# Altium integrated library Xilinx Spartan-3AN.IntLib: 30 symbols (part 1 of 23)
Pins are listed as number, name and electrical type; pins without a type are passive.

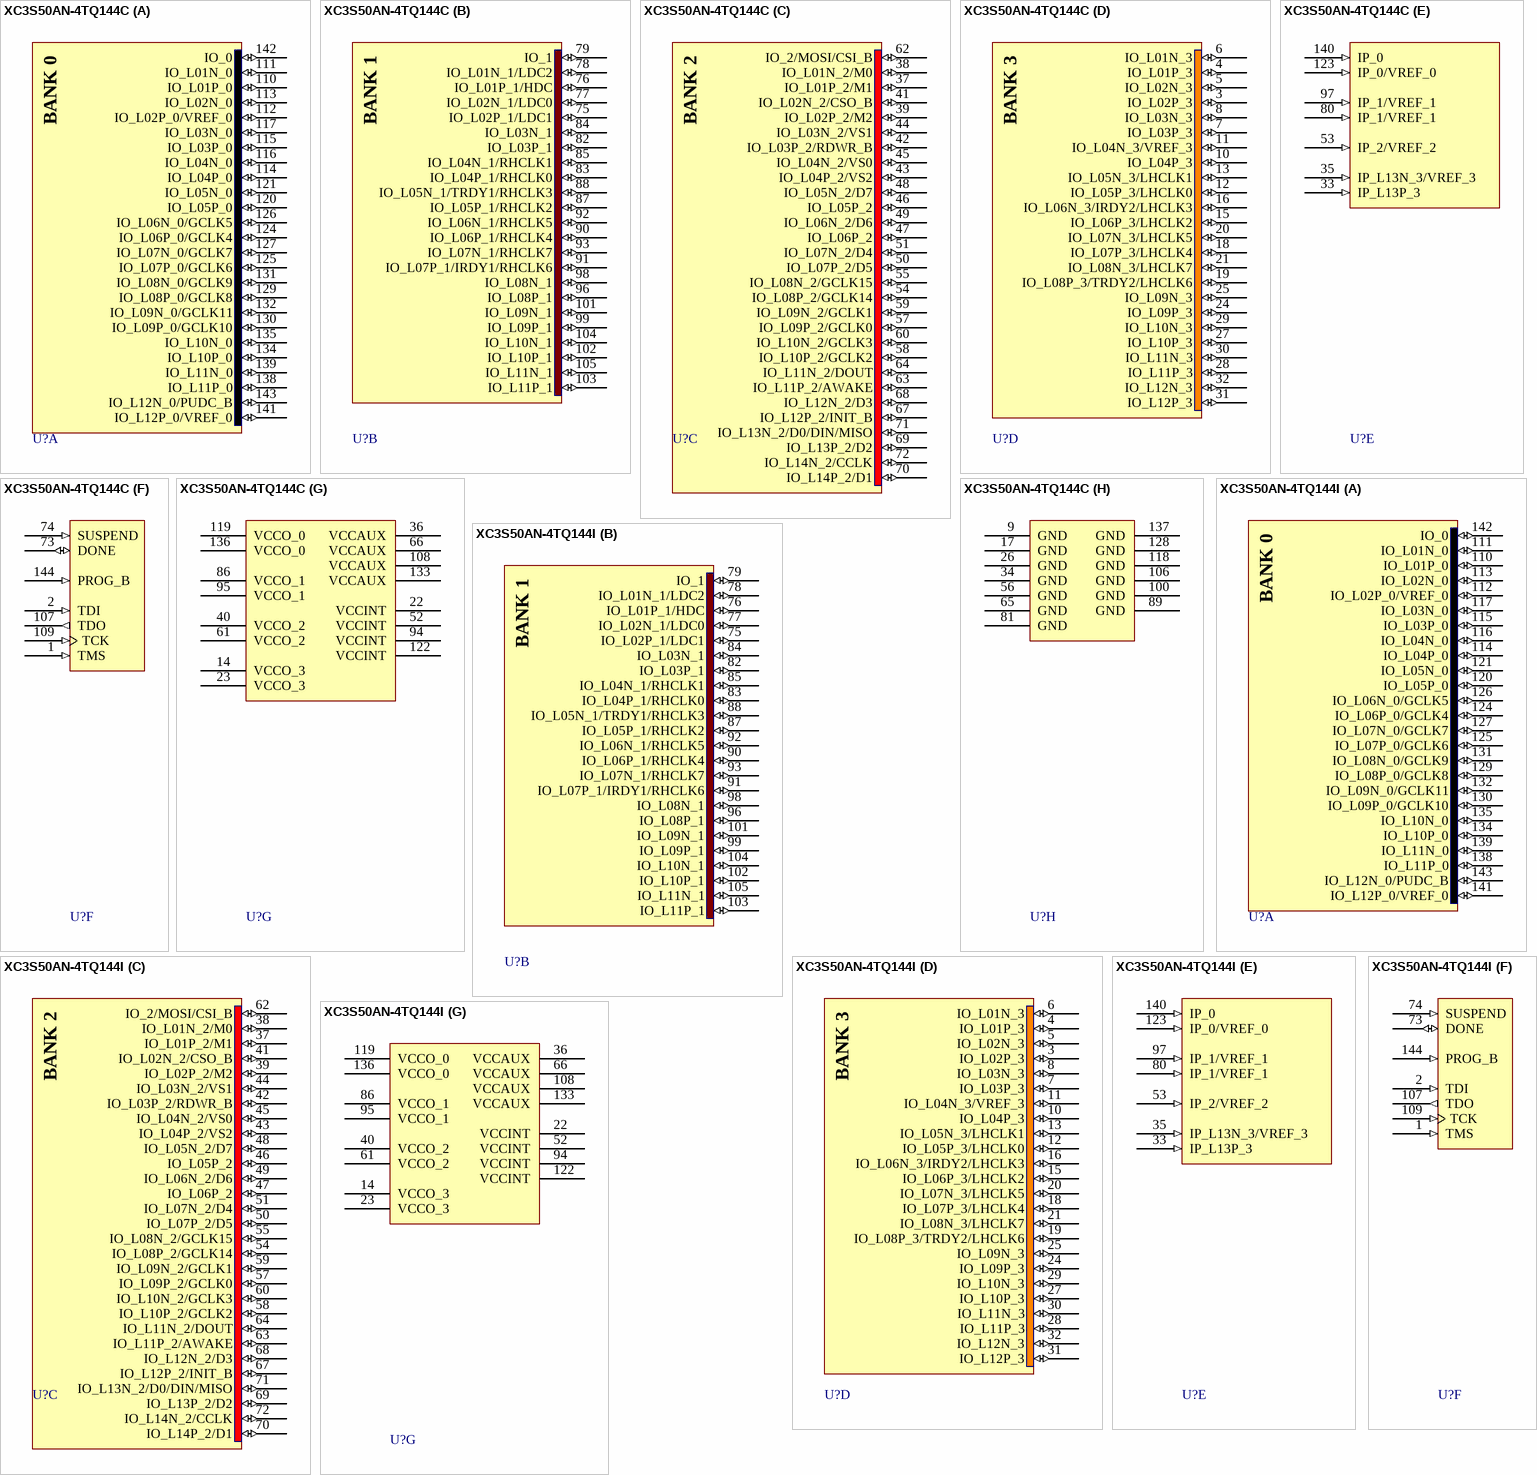
[diagram p0: symbols XC3S50AN-4TQ144C to XC3S50AN-4TQ144I]

## XC3S50AN-4TQ144C
designator U?
Spartan-3AN Non-Volatile FPGA, 108 User I/Os, 144-Pin TQFP, Standard Performance, Commercial Grade; Published: 20-Jul-2007; LatestRevisionDate: 01-Mar-2010; LatestRevisionNote: Updated to datasheet version 3.2 Nov-2009; DatasheetVersion: ver 3.2, Nov-2009; PackageVersion: ver1.2, Jun-2004; PackageReference: TQ144; Publisher: Altium Limited; PackageDescription: 144-Pin Thin Quad Flat Pack (TQ144); Code_JEDEC: MS-026-BFB; ComponentLink1Description: Spartan-3AN Datasheet; ComponentLink1URL: http://www.xilinx.com/support/documentation/data_sheets/ds557.pdf; ComponentLink2Description: TQ144 Package Drawing; ComponentLink2URL: http://www.xilinx.com/support/documentation/package_specs/tq144.pdf; ComponentLink3Description: Spartan-3AN Documents; ComponentLink3URL: http://www.xilinx.com/support/documentation/spartan-3an.htm; ComponentLink4Description: Xilinx.com Home; ComponentLink4URL: http://www.xilinx.com
footprint TQ144_N (Thin QFP, 144-Leads, Body 20x20mm, Pitch 0.5mm, IPC Medium Density)
footprint TQ144_L (Thin QFP, 144-Leads, Body 20x20mm, Pitch 0.5mm, IPC High Density)
footprint TQ144_M (Thin QFP, 144-Leads, Body 20x20mm, Pitch 0.5mm, IPC Low Density)
signal-integrity model XC3S50AN_TQ144 (Spartan-3AN)
part A pins: 110 IO_L01P_0 (io) "Unrestricted, general-purpose user-I/O pin.", 111 IO_L01N_0 (io) "Unrestricted, general-purpose user-I/O pin.", 112 IO_L02P_0/VREF_0 (io) "Dual-purpose pin that is either a user-I/O pin or provides a reference voltage input.", 113 IO_L02N_0 (io) "Unrestricted, general-purpose user-I/O pin.", 114 IO_L04P_0 (io) "Unrestricted, general-purpose user-I/O pin.", 115 IO_L03P_0 (io) "Unrestricted, general-purpose user-I/O pin.", 116 IO_L04N_0 (io) "Unrestricted, general-purpose user-I/O pin.", 117 IO_L03N_0 (io) "Unrestricted, general-purpose user-I/O pin.", 120 IO_L05P_0 (io) "Unrestricted, general-purpose user-I/O pin.", 121 IO_L05N_0 (io) "Unrestricted, general-purpose user-I/O pin.", 124 IO_L06P_0/GCLK4 (io) "Either a user-I/O pin or a global clock input.", 125 IO_L07P_0/GCLK6 (io) "Either a user-I/O pin or a global clock input.", 126 IO_L06N_0/GCLK5 (io) "Either a user-I/O pin or a global clock input.", 127 IO_L07N_0/GCLK7 (io) "Either a user-I/O pin or a global clock input.", 129 IO_L08P_0/GCLK8 (io) "Either a user-I/O pin or a global clock input.", 130 IO_L09P_0/GCLK10 (io) "Either a user-I/O pin or a global clock input.", 131 IO_L08N_0/GCLK9 (io) "Either a user-I/O pin or a global clock input.", 132 IO_L09N_0/GCLK11 (io) "Either a user-I/O pin or a global clock input.", 134 IO_L10P_0 (io) "Unrestricted, general-purpose user-I/O pin.", 135 IO_L10N_0 (io) "Unrestricted, general-purpose user-I/O pin.", 138 IO_L11P_0 (io) "Unrestricted, general-purpose user-I/O pin.", 139 IO_L11N_0 (io) "Unrestricted, general-purpose user-I/O pin.", 141 IO_L12P_0/VREF_0 (io) "Dual-purpose pin that is either a user-I/O pin or provides a reference voltage input.", 142 IO_0 (io) "Unrestricted, general-purpose user-I/O pin.", 143 IO_L12N_0/PUDC_B (io) "Dual-purpose pin used in some configuration modes, and then usually available as a user I/O."
part B pins: 75 IO_L02P_1/LDC1 (io) "Dual-purpose pin used in some configuration modes, and then usually available as a user I/O.", 76 IO_L01P_1/HDC (io) "Dual-purpose pin used in some configuration modes, and then usually available as a user I/O.", 77 IO_L02N_1/LDC0 (io) "Dual-purpose pin used in some configuration modes, and then usually available as a user I/O.", 78 IO_L01N_1/LDC2 (io) "Dual-purpose pin used in some configuration modes, and then usually available as a user I/O.", 79 IO_1 (io) "Unrestricted, general-purpose user-I/O pin.", 82 IO_L03P_1 (io) "Unrestricted, general-purpose user-I/O pin.", 83 IO_L04P_1/RHCLK0 (io) "Either a user-I/O pin or a global clock input for right half of device.", 84 IO_L03N_1 (io) "Unrestricted, general-purpose user-I/O pin.", 85 IO_L04N_1/RHCLK1 (io) "Either a user-I/O pin or a global clock input for right half of device.", 87 IO_L05P_1/RHCLK2 (io) "Either a user-I/O pin or a global clock input for right half of device.", 88 IO_L05N_1/TRDY1/RHCLK3 (io) "Either a user-I/O pin or a global clock input for right half of device.", 90 IO_L06P_1/RHCLK4 (io) "Either a user-I/O pin or a global clock input for right half of device.", 91 IO_L07P_1/IRDY1/RHCLK6 (io) "Either a user-I/O pin or a global clock input for right half of device.", 92 IO_L06N_1/RHCLK5 (io) "Either a user-I/O pin or a global clock input for right half of device.", 93 IO_L07N_1/RHCLK7 (io) "Either a user-I/O pin or a global clock input for right half of device.", 96 IO_L08P_1 (io) "Unrestricted, general-purpose user-I/O pin.", 98 IO_L08N_1 (io) "Unrestricted, general-purpose user-I/O pin.", 99 IO_L09P_1 (io) "Unrestricted, general-purpose user-I/O pin.", 101 IO_L09N_1 (io) "Unrestricted, general-purpose user-I/O pin.", 102 IO_L10P_1 (io) "Unrestricted, general-purpose user-I/O pin.", 103 IO_L11P_1 (io) "Unrestricted, general-purpose user-I/O pin.", 104 IO_L10N_1 (io) "Unrestricted, general-purpose user-I/O pin.", 105 IO_L11N_1 (io) "Unrestricted, general-purpose user-I/O pin."
part C pins: 37 IO_L01P_2/M1 (io) "Dual-purpose pin used in some configuration modes, and then usually available as a user I/O.", 38 IO_L01N_2/M0 (io) "Dual-purpose pin used in some configuration modes, and then usually available as a user I/O.", 39 IO_L02P_2/M2 (io) "Dual-purpose pin used in some configuration modes, and then usually available as a user I/O.", 41 IO_L02N_2/CSO_B (io) "Dual-purpose pin used in some configuration modes, and then usually available as a user I/O.", 42 IO_L03P_2/RDWR_B (io) "Dual-purpose pin used in some configuration modes, and then usually available as a user I/O.", 43 IO_L04P_2/VS2 (io) "Dual-purpose pin used in some configuration modes, and then usually available as a user I/O.", 44 IO_L03N_2/VS1 (io) "Dual-purpose pin used in some configuration modes, and then usually available as a user I/O.", 45 IO_L04N_2/VS0 (io) "Dual-purpose pin used in some configuration modes, and then usually available as a user I/O.", 46 IO_L05P_2 (io) "Unrestricted, general-purpose user-I/O pin.", 47 IO_L06P_2 (io) "Unrestricted, general-purpose user-I/O pin.", 48 IO_L05N_2/D7 (io) "Dual-purpose pin used in some configuration modes, and then usually available as a user I/O.", 49 IO_L06N_2/D6 (io) "Dual-purpose pin used in some configuration modes, and then usually available as a user I/O.", 50 IO_L07P_2/D5 (io) "Dual-purpose pin used in some configuration modes, and then usually available as a user I/O.", 51 IO_L07N_2/D4 (io) "Dual-purpose pin used in some configuration modes, and then usually available as a user I/O.", 54 IO_L08P_2/GCLK14 (io) "Either a user-I/O pin or a global clock input.", 55 IO_L08N_2/GCLK15 (io) "Either a user-I/O pin or a global clock input.", 57 IO_L09P_2/GCLK0 (io) "Either a user-I/O pin or a global clock input.", 58 IO_L10P_2/GCLK2 (io) "Either a user-I/O pin or a global clock input.", 59 IO_L09N_2/GCLK1 (io) "Either a user-I/O pin or a global clock input.", 60 IO_L10N_2/GCLK3 (io) "Either a user-I/O pin or a global clock input.", 62 IO_2/MOSI/CSI_B (io) "Dual-purpose pin used in some configuration modes, and then usually available as a user I/O.", 63 IO_L11P_2/AWAKE (io) "Dual-Purpose pin. Used for the power-saving Suspend mode and user I/O.", 64 IO_L11N_2/DOUT (io) "Dual-purpose pin used in some configuration modes, and then usually available as a user I/O.", 67 IO_L12P_2/INIT_B (io) "Dual-purpose pin used in some configuration modes, and then usually available as a user I/O.", 68 IO_L12N_2/D3 (io) "Dual-purpose pin used in some configuration modes, and then usually available as a user I/O.", 69 IO_L13P_2/D2 (io) "Dual-purpose pin used in some configuration modes, and then usually available as a user I/O.", 70 IO_L14P_2/D1 (io) "Dual-purpose pin used in some configuration modes, and then usually available as a user I/O.", 71 IO_L13N_2/D0/DIN/MISO (io) "Dual-purpose pin used in some configuration modes, and then usually available as a user I/O.", 72 IO_L14N_2/CCLK (io) "Dual-purpose pin used in some configuration modes, and then usually available as a user I/O."
part D pins: 3 IO_L02P_3 (io) "Unrestricted, general-purpose user-I/O pin.", 4 IO_L01P_3 (io) "Unrestricted, general-purpose user-I/O pin.", 5 IO_L02N_3 (io) "Unrestricted, general-purpose user-I/O pin.", 6 IO_L01N_3 (io) "Unrestricted, general-purpose user-I/O pin.", 7 IO_L03P_3 (io) "Unrestricted, general-purpose user-I/O pin.", 8 IO_L03N_3 (io) "Unrestricted, general-purpose user-I/O pin.", 10 IO_L04P_3 (io) "Unrestricted, general-purpose user-I/O pin.", 11 IO_L04N_3/VREF_3 (io) "Dual-purpose pin that is either a user-I/O pin or provides a reference voltage input.", 12 IO_L05P_3/LHCLK0 (io) "Either a user-I/O pin or a global clock input for left half of device.", 13 IO_L05N_3/LHCLK1 (io) "Either a user-I/O pin or a global clock input for left half of device.", 15 IO_L06P_3/LHCLK2 (io) "Either a user-I/O pin or a global clock input for left half of device.", 16 IO_L06N_3/IRDY2/LHCLK3 (io) "Either a user-I/O pin or a global clock input for left half of device.", 18 IO_L07P_3/LHCLK4 (io) "Either a user-I/O pin or a global clock input for left half of device.", 19 IO_L08P_3/TRDY2/LHCLK6 (io) "Either a user-I/O pin or a global clock input for left half of device.", 20 IO_L07N_3/LHCLK5 (io) "Either a user-I/O pin or a global clock input for left half of device.", 21 IO_L08N_3/LHCLK7 (io) "Either a user-I/O pin or a global clock input for left half of device.", 24 IO_L09P_3 (io) "Unrestricted, general-purpose user-I/O pin.", 25 IO_L09N_3 (io) "Unrestricted, general-purpose user-I/O pin.", 27 IO_L10P_3 (io) "Unrestricted, general-purpose user-I/O pin.", 28 IO_L11P_3 (io) "Unrestricted, general-purpose user-I/O pin.", 29 IO_L10N_3 (io) "Unrestricted, general-purpose user-I/O pin.", 30 IO_L11N_3 (io) "Unrestricted, general-purpose user-I/O pin.", 31 IO_L12P_3 (io) "Unrestricted, general-purpose user-I/O pin.", 32 IO_L12N_3 (io) "Unrestricted, general-purpose user-I/O pin."
part E pins: 33 IP_L13P_3 (in) "Unrestricted, general-purpose input-only pin.", 35 IP_L13N_3/VREF_3 (in) "Dual-purpose pin that is either a Input-only pin, or provides a reference voltage input.", 53 IP_2/VREF_2 (in) "Dual-purpose pin that is either a Input-only pin, or provides a reference voltage input.", 80 IP_1/VREF_1 (in) "Dual-purpose pin that is either a Input-only pin, or provides a reference voltage input.", 97 IP_1/VREF_1 (in) "Dual-purpose pin that is either a Input-only pin, or provides a reference voltage input.", 123 IP_0/VREF_0 (in) "Dual-purpose pin that is either a Input-only pin, or provides a reference voltage input.", 140 IP_0 (in) "Unrestricted, general-purpose input-only pin."
part F pins: 1 TMS (in) "Dedicated JTAG pin.", 2 TDI (in) "Dedicated JTAG pin.", 73 DONE (io) "Dedicated configuration pin.", 74 SUSPEND (in) "Dedicated pin for the power-saving Suspend mode.", 107 TDO (out) "Dedicated JTAG pin.", 109 TCK (in) "Dedicated JTAG pin.", 144 PROG_B (in) "Dedicated configuration pin."
part G pins: 14 VCCO_3 (power) "Supplies power to the output buffers within the I/O bank.", 22 VCCINT (power) "Dedicated internal core logic power supply pin.", 23 VCCO_3 (power) "Supplies power to the output buffers within the I/O bank.", 36 VCCAUX (power) "Dedicated auxiliary power supply pin.", 40 VCCO_2 (power) "Supplies power to the output buffers within the I/O bank.", 52 VCCINT (power) "Dedicated internal core logic power supply pin.", 61 VCCO_2 (power) "Supplies power to the output buffers within the I/O bank.", 66 VCCAUX (power) "Dedicated auxiliary power supply pin.", 86 VCCO_1 (power) "Supplies power to the output buffers within the I/O bank.", 94 VCCINT (power) "Dedicated internal core logic power supply pin.", 95 VCCO_1 (power) "Supplies power to the output buffers within the I/O bank.", 108 VCCAUX (power) "Dedicated auxiliary power supply pin.", 119 VCCO_0 (power) "Supplies power to the output buffers within the I/O bank.", 122 VCCINT (power) "Dedicated internal core logic power supply pin.", 133 VCCAUX (power) "Dedicated auxiliary power supply pin.", 136 VCCO_0 (power) "Supplies power to the output buffers within the I/O bank."
part H pins: 9 GND (power) "Dedicated ground pin.", 17 GND (power) "Dedicated ground pin.", 26 GND (power) "Dedicated ground pin.", 34 GND (power) "Dedicated ground pin.", 56 GND (power) "Dedicated ground pin.", 65 GND (power) "Dedicated ground pin.", 81 GND (power) "Dedicated ground pin.", 89 GND (power) "Dedicated ground pin.", 100 GND (power) "Dedicated ground pin.", 106 GND (power) "Dedicated ground pin.", 118 GND (power) "Dedicated ground pin.", 128 GND (power) "Dedicated ground pin.", 137 GND (power) "Dedicated ground pin."
part A text: BANK 0
part B text: BANK 1
part C text: BANK 2
part D text: BANK 3

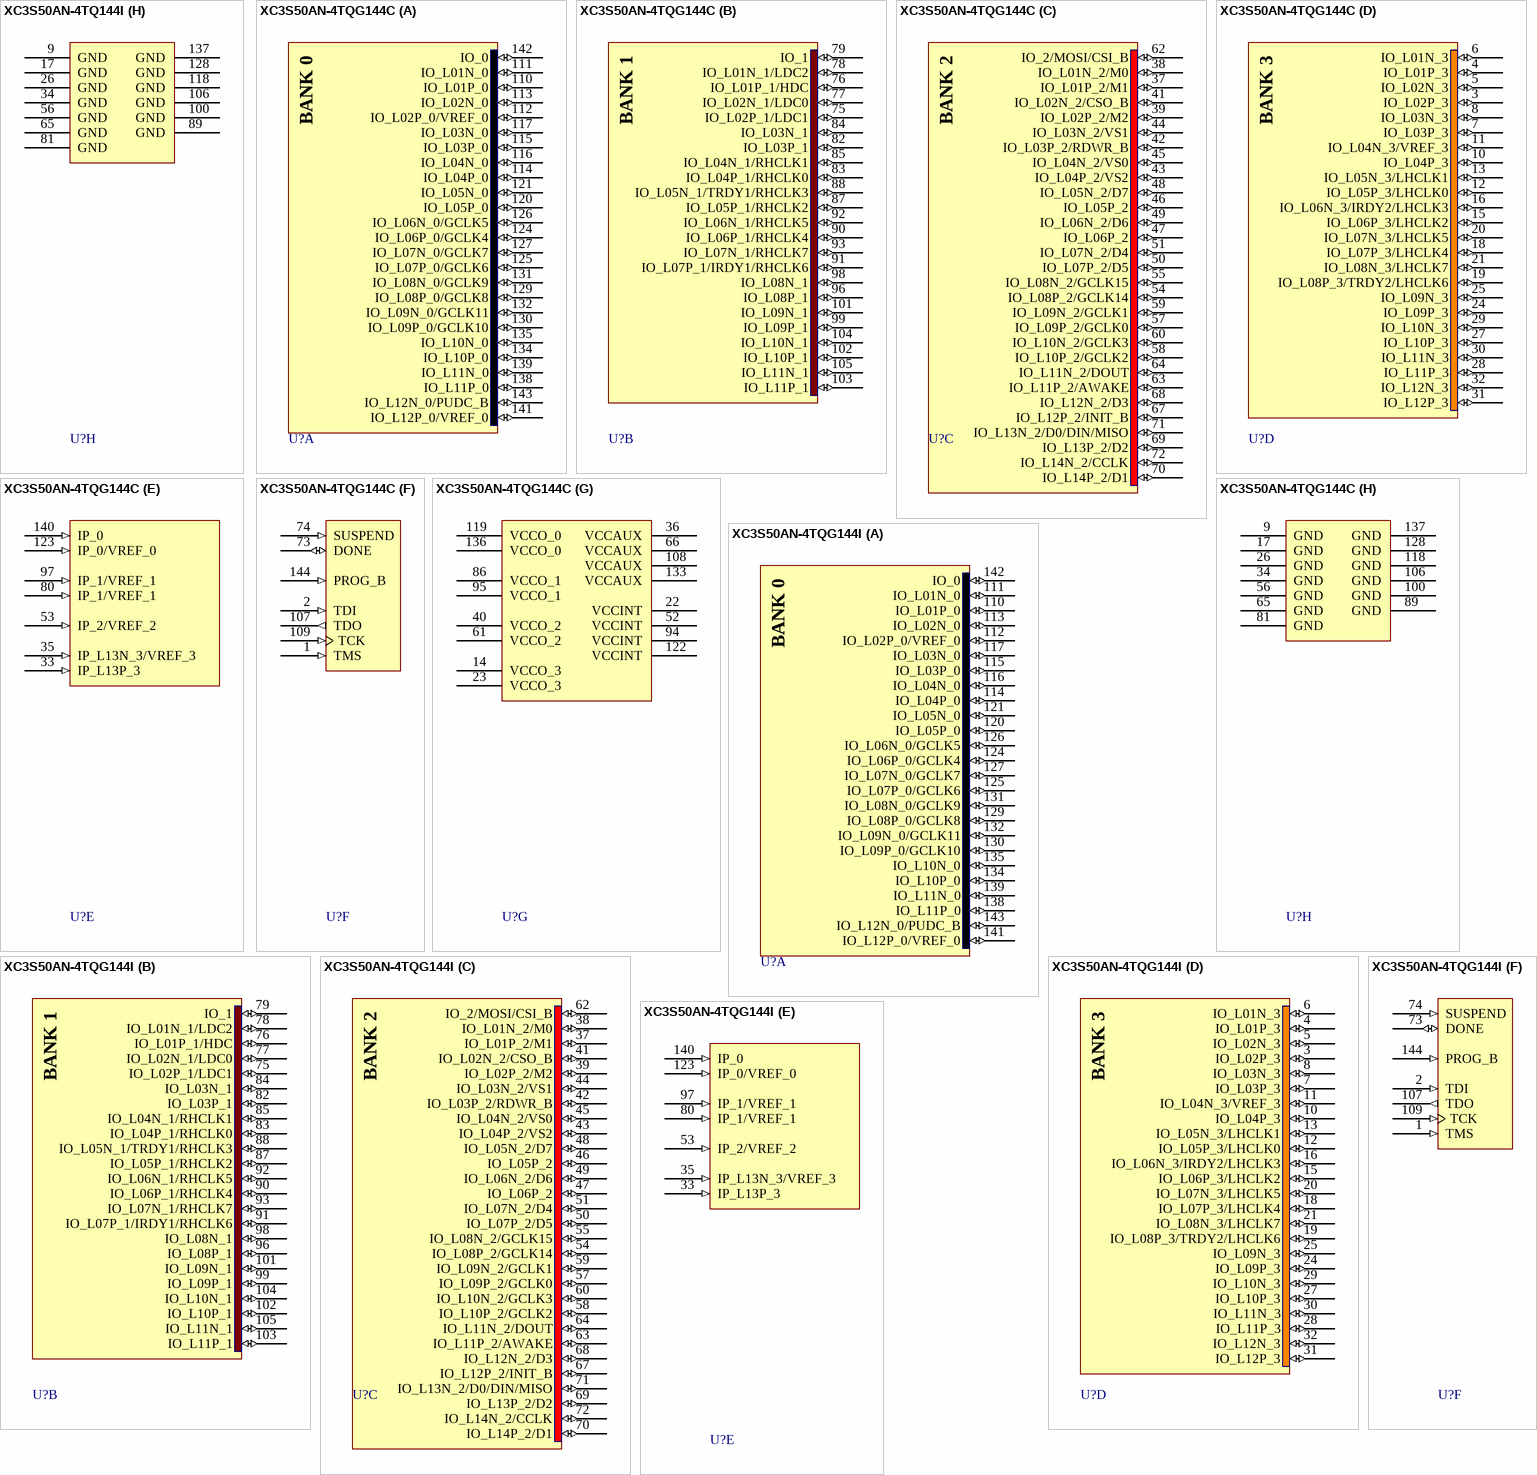
[diagram p1: symbols XC3S50AN-4TQ144I to XC3S50AN-4TQG144I]

## XC3S50AN-4TQ144I
designator U?
Spartan-3AN Non-Volatile FPGA, 108 User I/Os, 144-Pin TQFP, Standard Performance, Industrial Grade; Published: 20-Jul-2007; LatestRevisionDate: 01-Mar-2010; LatestRevisionNote: Updated to datasheet version 3.2 Nov-2009; DatasheetVersion: ver 3.2, Nov-2009; PackageVersion: ver1.2, Jun-2004; PackageReference: TQ144; Publisher: Altium Limited; PackageDescription: 144-Pin Thin Quad Flat Pack (TQ144); Code_JEDEC: MS-026-BFB; ComponentLink1Description: Spartan-3AN Datasheet; ComponentLink1URL: http://www.xilinx.com/support/documentation/data_sheets/ds557.pdf; ComponentLink2Description: TQ144 Package Drawing; ComponentLink2URL: http://www.xilinx.com/support/documentation/package_specs/tq144.pdf; ComponentLink3Description: Spartan-3AN Documents; ComponentLink3URL: http://www.xilinx.com/support/documentation/spartan-3an.htm; ComponentLink4Description: Xilinx.com Home; ComponentLink4URL: http://www.xilinx.com
footprint TQ144_N (Thin QFP, 144-Leads, Body 20x20mm, Pitch 0.5mm, IPC Medium Density)
footprint TQ144_L (Thin QFP, 144-Leads, Body 20x20mm, Pitch 0.5mm, IPC High Density)
footprint TQ144_M (Thin QFP, 144-Leads, Body 20x20mm, Pitch 0.5mm, IPC Low Density)
signal-integrity model XC3S50AN_TQ144 (Spartan-3AN)
part A pins: 110 IO_L01P_0 (io) "Unrestricted, general-purpose user-I/O pin.", 111 IO_L01N_0 (io) "Unrestricted, general-purpose user-I/O pin.", 112 IO_L02P_0/VREF_0 (io) "Dual-purpose pin that is either a user-I/O pin or provides a reference voltage input.", 113 IO_L02N_0 (io) "Unrestricted, general-purpose user-I/O pin.", 114 IO_L04P_0 (io) "Unrestricted, general-purpose user-I/O pin.", 115 IO_L03P_0 (io) "Unrestricted, general-purpose user-I/O pin.", 116 IO_L04N_0 (io) "Unrestricted, general-purpose user-I/O pin.", 117 IO_L03N_0 (io) "Unrestricted, general-purpose user-I/O pin.", 120 IO_L05P_0 (io) "Unrestricted, general-purpose user-I/O pin.", 121 IO_L05N_0 (io) "Unrestricted, general-purpose user-I/O pin.", 124 IO_L06P_0/GCLK4 (io) "Either a user-I/O pin or a global clock input.", 125 IO_L07P_0/GCLK6 (io) "Either a user-I/O pin or a global clock input.", 126 IO_L06N_0/GCLK5 (io) "Either a user-I/O pin or a global clock input.", 127 IO_L07N_0/GCLK7 (io) "Either a user-I/O pin or a global clock input.", 129 IO_L08P_0/GCLK8 (io) "Either a user-I/O pin or a global clock input.", 130 IO_L09P_0/GCLK10 (io) "Either a user-I/O pin or a global clock input.", 131 IO_L08N_0/GCLK9 (io) "Either a user-I/O pin or a global clock input.", 132 IO_L09N_0/GCLK11 (io) "Either a user-I/O pin or a global clock input.", 134 IO_L10P_0 (io) "Unrestricted, general-purpose user-I/O pin.", 135 IO_L10N_0 (io) "Unrestricted, general-purpose user-I/O pin.", 138 IO_L11P_0 (io) "Unrestricted, general-purpose user-I/O pin.", 139 IO_L11N_0 (io) "Unrestricted, general-purpose user-I/O pin.", 141 IO_L12P_0/VREF_0 (io) "Dual-purpose pin that is either a user-I/O pin or provides a reference voltage input.", 142 IO_0 (io) "Unrestricted, general-purpose user-I/O pin.", 143 IO_L12N_0/PUDC_B (io) "Dual-purpose pin used in some configuration modes, and then usually available as a user I/O."
part B pins: 75 IO_L02P_1/LDC1 (io) "Dual-purpose pin used in some configuration modes, and then usually available as a user I/O.", 76 IO_L01P_1/HDC (io) "Dual-purpose pin used in some configuration modes, and then usually available as a user I/O.", 77 IO_L02N_1/LDC0 (io) "Dual-purpose pin used in some configuration modes, and then usually available as a user I/O.", 78 IO_L01N_1/LDC2 (io) "Dual-purpose pin used in some configuration modes, and then usually available as a user I/O.", 79 IO_1 (io) "Unrestricted, general-purpose user-I/O pin.", 82 IO_L03P_1 (io) "Unrestricted, general-purpose user-I/O pin.", 83 IO_L04P_1/RHCLK0 (io) "Either a user-I/O pin or a global clock input for right half of device.", 84 IO_L03N_1 (io) "Unrestricted, general-purpose user-I/O pin.", 85 IO_L04N_1/RHCLK1 (io) "Either a user-I/O pin or a global clock input for right half of device.", 87 IO_L05P_1/RHCLK2 (io) "Either a user-I/O pin or a global clock input for right half of device.", 88 IO_L05N_1/TRDY1/RHCLK3 (io) "Either a user-I/O pin or a global clock input for right half of device.", 90 IO_L06P_1/RHCLK4 (io) "Either a user-I/O pin or a global clock input for right half of device.", 91 IO_L07P_1/IRDY1/RHCLK6 (io) "Either a user-I/O pin or a global clock input for right half of device.", 92 IO_L06N_1/RHCLK5 (io) "Either a user-I/O pin or a global clock input for right half of device.", 93 IO_L07N_1/RHCLK7 (io) "Either a user-I/O pin or a global clock input for right half of device.", 96 IO_L08P_1 (io) "Unrestricted, general-purpose user-I/O pin.", 98 IO_L08N_1 (io) "Unrestricted, general-purpose user-I/O pin.", 99 IO_L09P_1 (io) "Unrestricted, general-purpose user-I/O pin.", 101 IO_L09N_1 (io) "Unrestricted, general-purpose user-I/O pin.", 102 IO_L10P_1 (io) "Unrestricted, general-purpose user-I/O pin.", 103 IO_L11P_1 (io) "Unrestricted, general-purpose user-I/O pin.", 104 IO_L10N_1 (io) "Unrestricted, general-purpose user-I/O pin.", 105 IO_L11N_1 (io) "Unrestricted, general-purpose user-I/O pin."
part C pins: 37 IO_L01P_2/M1 (io) "Dual-purpose pin used in some configuration modes, and then usually available as a user I/O.", 38 IO_L01N_2/M0 (io) "Dual-purpose pin used in some configuration modes, and then usually available as a user I/O.", 39 IO_L02P_2/M2 (io) "Dual-purpose pin used in some configuration modes, and then usually available as a user I/O.", 41 IO_L02N_2/CSO_B (io) "Dual-purpose pin used in some configuration modes, and then usually available as a user I/O.", 42 IO_L03P_2/RDWR_B (io) "Dual-purpose pin used in some configuration modes, and then usually available as a user I/O.", 43 IO_L04P_2/VS2 (io) "Dual-purpose pin used in some configuration modes, and then usually available as a user I/O.", 44 IO_L03N_2/VS1 (io) "Dual-purpose pin used in some configuration modes, and then usually available as a user I/O.", 45 IO_L04N_2/VS0 (io) "Dual-purpose pin used in some configuration modes, and then usually available as a user I/O.", 46 IO_L05P_2 (io) "Unrestricted, general-purpose user-I/O pin.", 47 IO_L06P_2 (io) "Unrestricted, general-purpose user-I/O pin.", 48 IO_L05N_2/D7 (io) "Dual-purpose pin used in some configuration modes, and then usually available as a user I/O.", 49 IO_L06N_2/D6 (io) "Dual-purpose pin used in some configuration modes, and then usually available as a user I/O.", 50 IO_L07P_2/D5 (io) "Dual-purpose pin used in some configuration modes, and then usually available as a user I/O.", 51 IO_L07N_2/D4 (io) "Dual-purpose pin used in some configuration modes, and then usually available as a user I/O.", 54 IO_L08P_2/GCLK14 (io) "Either a user-I/O pin or a global clock input.", 55 IO_L08N_2/GCLK15 (io) "Either a user-I/O pin or a global clock input.", 57 IO_L09P_2/GCLK0 (io) "Either a user-I/O pin or a global clock input.", 58 IO_L10P_2/GCLK2 (io) "Either a user-I/O pin or a global clock input.", 59 IO_L09N_2/GCLK1 (io) "Either a user-I/O pin or a global clock input.", 60 IO_L10N_2/GCLK3 (io) "Either a user-I/O pin or a global clock input.", 62 IO_2/MOSI/CSI_B (io) "Dual-purpose pin used in some configuration modes, and then usually available as a user I/O.", 63 IO_L11P_2/AWAKE (io) "Dual-Purpose pin. Used for the power-saving Suspend mode and user I/O.", 64 IO_L11N_2/DOUT (io) "Dual-purpose pin used in some configuration modes, and then usually available as a user I/O.", 67 IO_L12P_2/INIT_B (io) "Dual-purpose pin used in some configuration modes, and then usually available as a user I/O.", 68 IO_L12N_2/D3 (io) "Dual-purpose pin used in some configuration modes, and then usually available as a user I/O.", 69 IO_L13P_2/D2 (io) "Dual-purpose pin used in some configuration modes, and then usually available as a user I/O.", 70 IO_L14P_2/D1 (io) "Dual-purpose pin used in some configuration modes, and then usually available as a user I/O.", 71 IO_L13N_2/D0/DIN/MISO (io) "Dual-purpose pin used in some configuration modes, and then usually available as a user I/O.", 72 IO_L14N_2/CCLK (io) "Dual-purpose pin used in some configuration modes, and then usually available as a user I/O."
part D pins: 3 IO_L02P_3 (io) "Unrestricted, general-purpose user-I/O pin.", 4 IO_L01P_3 (io) "Unrestricted, general-purpose user-I/O pin.", 5 IO_L02N_3 (io) "Unrestricted, general-purpose user-I/O pin.", 6 IO_L01N_3 (io) "Unrestricted, general-purpose user-I/O pin.", 7 IO_L03P_3 (io) "Unrestricted, general-purpose user-I/O pin.", 8 IO_L03N_3 (io) "Unrestricted, general-purpose user-I/O pin.", 10 IO_L04P_3 (io) "Unrestricted, general-purpose user-I/O pin.", 11 IO_L04N_3/VREF_3 (io) "Dual-purpose pin that is either a user-I/O pin or provides a reference voltage input.", 12 IO_L05P_3/LHCLK0 (io) "Either a user-I/O pin or a global clock input for left half of device.", 13 IO_L05N_3/LHCLK1 (io) "Either a user-I/O pin or a global clock input for left half of device.", 15 IO_L06P_3/LHCLK2 (io) "Either a user-I/O pin or a global clock input for left half of device.", 16 IO_L06N_3/IRDY2/LHCLK3 (io) "Either a user-I/O pin or a global clock input for left half of device.", 18 IO_L07P_3/LHCLK4 (io) "Either a user-I/O pin or a global clock input for left half of device.", 19 IO_L08P_3/TRDY2/LHCLK6 (io) "Either a user-I/O pin or a global clock input for left half of device.", 20 IO_L07N_3/LHCLK5 (io) "Either a user-I/O pin or a global clock input for left half of device.", 21 IO_L08N_3/LHCLK7 (io) "Either a user-I/O pin or a global clock input for left half of device.", 24 IO_L09P_3 (io) "Unrestricted, general-purpose user-I/O pin.", 25 IO_L09N_3 (io) "Unrestricted, general-purpose user-I/O pin.", 27 IO_L10P_3 (io) "Unrestricted, general-purpose user-I/O pin.", 28 IO_L11P_3 (io) "Unrestricted, general-purpose user-I/O pin.", 29 IO_L10N_3 (io) "Unrestricted, general-purpose user-I/O pin.", 30 IO_L11N_3 (io) "Unrestricted, general-purpose user-I/O pin.", 31 IO_L12P_3 (io) "Unrestricted, general-purpose user-I/O pin.", 32 IO_L12N_3 (io) "Unrestricted, general-purpose user-I/O pin."
part E pins: 33 IP_L13P_3 (in) "Unrestricted, general-purpose input-only pin.", 35 IP_L13N_3/VREF_3 (in) "Dual-purpose pin that is either a Input-only pin, or provides a reference voltage input.", 53 IP_2/VREF_2 (in) "Dual-purpose pin that is either a Input-only pin, or provides a reference voltage input.", 80 IP_1/VREF_1 (in) "Dual-purpose pin that is either a Input-only pin, or provides a reference voltage input.", 97 IP_1/VREF_1 (in) "Dual-purpose pin that is either a Input-only pin, or provides a reference voltage input.", 123 IP_0/VREF_0 (in) "Dual-purpose pin that is either a Input-only pin, or provides a reference voltage input.", 140 IP_0 (in) "Unrestricted, general-purpose input-only pin."
part F pins: 1 TMS (in) "Dedicated JTAG pin.", 2 TDI (in) "Dedicated JTAG pin.", 73 DONE (io) "Dedicated configuration pin.", 74 SUSPEND (in) "Dedicated pin for the power-saving Suspend mode.", 107 TDO (out) "Dedicated JTAG pin.", 109 TCK (in) "Dedicated JTAG pin.", 144 PROG_B (in) "Dedicated configuration pin."
part G pins: 14 VCCO_3 (power) "Supplies power to the output buffers within the I/O bank.", 22 VCCINT (power) "Dedicated internal core logic power supply pin.", 23 VCCO_3 (power) "Supplies power to the output buffers within the I/O bank.", 36 VCCAUX (power) "Dedicated auxiliary power supply pin.", 40 VCCO_2 (power) "Supplies power to the output buffers within the I/O bank.", 52 VCCINT (power) "Dedicated internal core logic power supply pin.", 61 VCCO_2 (power) "Supplies power to the output buffers within the I/O bank.", 66 VCCAUX (power) "Dedicated auxiliary power supply pin.", 86 VCCO_1 (power) "Supplies power to the output buffers within the I/O bank.", 94 VCCINT (power) "Dedicated internal core logic power supply pin.", 95 VCCO_1 (power) "Supplies power to the output buffers within the I/O bank.", 108 VCCAUX (power) "Dedicated auxiliary power supply pin.", 119 VCCO_0 (power) "Supplies power to the output buffers within the I/O bank.", 122 VCCINT (power) "Dedicated internal core logic power supply pin.", 133 VCCAUX (power) "Dedicated auxiliary power supply pin.", 136 VCCO_0 (power) "Supplies power to the output buffers within the I/O bank."
part H pins: 9 GND (power) "Dedicated ground pin.", 17 GND (power) "Dedicated ground pin.", 26 GND (power) "Dedicated ground pin.", 34 GND (power) "Dedicated ground pin.", 56 GND (power) "Dedicated ground pin.", 65 GND (power) "Dedicated ground pin.", 81 GND (power) "Dedicated ground pin.", 89 GND (power) "Dedicated ground pin.", 100 GND (power) "Dedicated ground pin.", 106 GND (power) "Dedicated ground pin.", 118 GND (power) "Dedicated ground pin.", 128 GND (power) "Dedicated ground pin.", 137 GND (power) "Dedicated ground pin."
part A text: BANK 0
part B text: BANK 1
part C text: BANK 2
part D text: BANK 3

## XC3S50AN-4TQG144C
designator U?
Spartan-3AN Non-Volatile FPGA, 108 User I/Os, 144-Pin TQFP, Standard Performance, Commercial Grade, Pb-Free; Published: 20-Jul-2007; LatestRevisionDate: 01-Mar-2010; LatestRevisionNote: Updated to datasheet version 3.2 Nov-2009; DatasheetVersion: ver 3.2, Nov-2009; PackageVersion: ver1.2, Jun-2004; PackageReference: TQG144; Publisher: Altium Limited; PackageDescription: 144-Pin Thin Quad Flat Pack (TQG144) - Pb-Free; Supplier 1: Digi-Key; Supplier Part Number 1: 122-1555-ND; Supplier 2: Farnell; Supplier Part Number 2: 1605840; Supplier 3: Newark; Supplier Part Number 3: 12N2463; Code_JEDEC: MS-026-BFB; ComponentLink1Description: Spartan-3AN Datasheet; ComponentLink1URL: http://www.xilinx.com/support/documentation/data_sheets/ds557.pdf; ComponentLink2Description: TQG144 Package Drawing; ComponentLink2URL: http://www.xilinx.com/support/documentation/package_specs/tq144.pdf; ComponentLink3Description: Spartan-3AN Documents; ComponentLink3URL: http://www.xilinx.com/support/documentation/spartan-3an.htm; ComponentLink4Description: Xilinx.com Home; ComponentLink4URL: http://www.xilinx.com
footprint TQG144_N (Thin QFP, 144-Leads, Body 20x20mm, Pitch 0.5mm, IPC Medium Density)
footprint TQG144_L (Thin QFP, 144-Leads, Body 20x20mm, Pitch 0.5mm, IPC High Density)
footprint TQG144_M (Thin QFP, 144-Leads, Body 20x20mm, Pitch 0.5mm, IPC Low Density)
signal-integrity model XC3S50AN_TQG144 (Spartan-3AN)
part A pins: 110 IO_L01P_0 (io) "Unrestricted, general-purpose user-I/O pin.", 111 IO_L01N_0 (io) "Unrestricted, general-purpose user-I/O pin.", 112 IO_L02P_0/VREF_0 (io) "Dual-purpose pin that is either a user-I/O pin or provides a reference voltage input.", 113 IO_L02N_0 (io) "Unrestricted, general-purpose user-I/O pin.", 114 IO_L04P_0 (io) "Unrestricted, general-purpose user-I/O pin.", 115 IO_L03P_0 (io) "Unrestricted, general-purpose user-I/O pin.", 116 IO_L04N_0 (io) "Unrestricted, general-purpose user-I/O pin.", 117 IO_L03N_0 (io) "Unrestricted, general-purpose user-I/O pin.", 120 IO_L05P_0 (io) "Unrestricted, general-purpose user-I/O pin.", 121 IO_L05N_0 (io) "Unrestricted, general-purpose user-I/O pin.", 124 IO_L06P_0/GCLK4 (io) "Either a user-I/O pin or a global clock input.", 125 IO_L07P_0/GCLK6 (io) "Either a user-I/O pin or a global clock input.", 126 IO_L06N_0/GCLK5 (io) "Either a user-I/O pin or a global clock input.", 127 IO_L07N_0/GCLK7 (io) "Either a user-I/O pin or a global clock input.", 129 IO_L08P_0/GCLK8 (io) "Either a user-I/O pin or a global clock input.", 130 IO_L09P_0/GCLK10 (io) "Either a user-I/O pin or a global clock input.", 131 IO_L08N_0/GCLK9 (io) "Either a user-I/O pin or a global clock input.", 132 IO_L09N_0/GCLK11 (io) "Either a user-I/O pin or a global clock input.", 134 IO_L10P_0 (io) "Unrestricted, general-purpose user-I/O pin.", 135 IO_L10N_0 (io) "Unrestricted, general-purpose user-I/O pin.", 138 IO_L11P_0 (io) "Unrestricted, general-purpose user-I/O pin.", 139 IO_L11N_0 (io) "Unrestricted, general-purpose user-I/O pin.", 141 IO_L12P_0/VREF_0 (io) "Dual-purpose pin that is either a user-I/O pin or provides a reference voltage input.", 142 IO_0 (io) "Unrestricted, general-purpose user-I/O pin.", 143 IO_L12N_0/PUDC_B (io) "Dual-purpose pin used in some configuration modes, and then usually available as a user I/O."
part B pins: 75 IO_L02P_1/LDC1 (io) "Dual-purpose pin used in some configuration modes, and then usually available as a user I/O.", 76 IO_L01P_1/HDC (io) "Dual-purpose pin used in some configuration modes, and then usually available as a user I/O.", 77 IO_L02N_1/LDC0 (io) "Dual-purpose pin used in some configuration modes, and then usually available as a user I/O.", 78 IO_L01N_1/LDC2 (io) "Dual-purpose pin used in some configuration modes, and then usually available as a user I/O.", 79 IO_1 (io) "Unrestricted, general-purpose user-I/O pin.", 82 IO_L03P_1 (io) "Unrestricted, general-purpose user-I/O pin.", 83 IO_L04P_1/RHCLK0 (io) "Either a user-I/O pin or a global clock input for right half of device.", 84 IO_L03N_1 (io) "Unrestricted, general-purpose user-I/O pin.", 85 IO_L04N_1/RHCLK1 (io) "Either a user-I/O pin or a global clock input for right half of device.", 87 IO_L05P_1/RHCLK2 (io) "Either a user-I/O pin or a global clock input for right half of device.", 88 IO_L05N_1/TRDY1/RHCLK3 (io) "Either a user-I/O pin or a global clock input for right half of device.", 90 IO_L06P_1/RHCLK4 (io) "Either a user-I/O pin or a global clock input for right half of device.", 91 IO_L07P_1/IRDY1/RHCLK6 (io) "Either a user-I/O pin or a global clock input for right half of device.", 92 IO_L06N_1/RHCLK5 (io) "Either a user-I/O pin or a global clock input for right half of device.", 93 IO_L07N_1/RHCLK7 (io) "Either a user-I/O pin or a global clock input for right half of device.", 96 IO_L08P_1 (io) "Unrestricted, general-purpose user-I/O pin.", 98 IO_L08N_1 (io) "Unrestricted, general-purpose user-I/O pin.", 99 IO_L09P_1 (io) "Unrestricted, general-purpose user-I/O pin.", 101 IO_L09N_1 (io) "Unrestricted, general-purpose user-I/O pin.", 102 IO_L10P_1 (io) "Unrestricted, general-purpose user-I/O pin.", 103 IO_L11P_1 (io) "Unrestricted, general-purpose user-I/O pin.", 104 IO_L10N_1 (io) "Unrestricted, general-purpose user-I/O pin.", 105 IO_L11N_1 (io) "Unrestricted, general-purpose user-I/O pin."
part C pins: 37 IO_L01P_2/M1 (io) "Dual-purpose pin used in some configuration modes, and then usually available as a user I/O.", 38 IO_L01N_2/M0 (io) "Dual-purpose pin used in some configuration modes, and then usually available as a user I/O.", 39 IO_L02P_2/M2 (io) "Dual-purpose pin used in some configuration modes, and then usually available as a user I/O.", 41 IO_L02N_2/CSO_B (io) "Dual-purpose pin used in some configuration modes, and then usually available as a user I/O.", 42 IO_L03P_2/RDWR_B (io) "Dual-purpose pin used in some configuration modes, and then usually available as a user I/O.", 43 IO_L04P_2/VS2 (io) "Dual-purpose pin used in some configuration modes, and then usually available as a user I/O.", 44 IO_L03N_2/VS1 (io) "Dual-purpose pin used in some configuration modes, and then usually available as a user I/O.", 45 IO_L04N_2/VS0 (io) "Dual-purpose pin used in some configuration modes, and then usually available as a user I/O.", 46 IO_L05P_2 (io) "Unrestricted, general-purpose user-I/O pin.", 47 IO_L06P_2 (io) "Unrestricted, general-purpose user-I/O pin.", 48 IO_L05N_2/D7 (io) "Dual-purpose pin used in some configuration modes, and then usually available as a user I/O.", 49 IO_L06N_2/D6 (io) "Dual-purpose pin used in some configuration modes, and then usually available as a user I/O.", 50 IO_L07P_2/D5 (io) "Dual-purpose pin used in some configuration modes, and then usually available as a user I/O.", 51 IO_L07N_2/D4 (io) "Dual-purpose pin used in some configuration modes, and then usually available as a user I/O.", 54 IO_L08P_2/GCLK14 (io) "Either a user-I/O pin or a global clock input.", 55 IO_L08N_2/GCLK15 (io) "Either a user-I/O pin or a global clock input.", 57 IO_L09P_2/GCLK0 (io) "Either a user-I/O pin or a global clock input.", 58 IO_L10P_2/GCLK2 (io) "Either a user-I/O pin or a global clock input.", 59 IO_L09N_2/GCLK1 (io) "Either a user-I/O pin or a global clock input.", 60 IO_L10N_2/GCLK3 (io) "Either a user-I/O pin or a global clock input.", 62 IO_2/MOSI/CSI_B (io) "Dual-purpose pin used in some configuration modes, and then usually available as a user I/O.", 63 IO_L11P_2/AWAKE (io) "Dual-Purpose pin. Used for the power-saving Suspend mode and user I/O.", 64 IO_L11N_2/DOUT (io) "Dual-purpose pin used in some configuration modes, and then usually available as a user I/O.", 67 IO_L12P_2/INIT_B (io) "Dual-purpose pin used in some configuration modes, and then usually available as a user I/O.", 68 IO_L12N_2/D3 (io) "Dual-purpose pin used in some configuration modes, and then usually available as a user I/O.", 69 IO_L13P_2/D2 (io) "Dual-purpose pin used in some configuration modes, and then usually available as a user I/O.", 70 IO_L14P_2/D1 (io) "Dual-purpose pin used in some configuration modes, and then usually available as a user I/O.", 71 IO_L13N_2/D0/DIN/MISO (io) "Dual-purpose pin used in some configuration modes, and then usually available as a user I/O.", 72 IO_L14N_2/CCLK (io) "Dual-purpose pin used in some configuration modes, and then usually available as a user I/O."
part D pins: 3 IO_L02P_3 (io) "Unrestricted, general-purpose user-I/O pin.", 4 IO_L01P_3 (io) "Unrestricted, general-purpose user-I/O pin.", 5 IO_L02N_3 (io) "Unrestricted, general-purpose user-I/O pin.", 6 IO_L01N_3 (io) "Unrestricted, general-purpose user-I/O pin.", 7 IO_L03P_3 (io) "Unrestricted, general-purpose user-I/O pin.", 8 IO_L03N_3 (io) "Unrestricted, general-purpose user-I/O pin.", 10 IO_L04P_3 (io) "Unrestricted, general-purpose user-I/O pin.", 11 IO_L04N_3/VREF_3 (io) "Dual-purpose pin that is either a user-I/O pin or provides a reference voltage input.", 12 IO_L05P_3/LHCLK0 (io) "Either a user-I/O pin or a global clock input for left half of device.", 13 IO_L05N_3/LHCLK1 (io) "Either a user-I/O pin or a global clock input for left half of device.", 15 IO_L06P_3/LHCLK2 (io) "Either a user-I/O pin or a global clock input for left half of device.", 16 IO_L06N_3/IRDY2/LHCLK3 (io) "Either a user-I/O pin or a global clock input for left half of device.", 18 IO_L07P_3/LHCLK4 (io) "Either a user-I/O pin or a global clock input for left half of device.", 19 IO_L08P_3/TRDY2/LHCLK6 (io) "Either a user-I/O pin or a global clock input for left half of device.", 20 IO_L07N_3/LHCLK5 (io) "Either a user-I/O pin or a global clock input for left half of device.", 21 IO_L08N_3/LHCLK7 (io) "Either a user-I/O pin or a global clock input for left half of device.", 24 IO_L09P_3 (io) "Unrestricted, general-purpose user-I/O pin.", 25 IO_L09N_3 (io) "Unrestricted, general-purpose user-I/O pin.", 27 IO_L10P_3 (io) "Unrestricted, general-purpose user-I/O pin.", 28 IO_L11P_3 (io) "Unrestricted, general-purpose user-I/O pin.", 29 IO_L10N_3 (io) "Unrestricted, general-purpose user-I/O pin.", 30 IO_L11N_3 (io) "Unrestricted, general-purpose user-I/O pin.", 31 IO_L12P_3 (io) "Unrestricted, general-purpose user-I/O pin.", 32 IO_L12N_3 (io) "Unrestricted, general-purpose user-I/O pin."
part E pins: 33 IP_L13P_3 (in) "Unrestricted, general-purpose input-only pin.", 35 IP_L13N_3/VREF_3 (in) "Dual-purpose pin that is either a Input-only pin, or provides a reference voltage input.", 53 IP_2/VREF_2 (in) "Dual-purpose pin that is either a Input-only pin, or provides a reference voltage input.", 80 IP_1/VREF_1 (in) "Dual-purpose pin that is either a Input-only pin, or provides a reference voltage input.", 97 IP_1/VREF_1 (in) "Dual-purpose pin that is either a Input-only pin, or provides a reference voltage input.", 123 IP_0/VREF_0 (in) "Dual-purpose pin that is either a Input-only pin, or provides a reference voltage input.", 140 IP_0 (in) "Unrestricted, general-purpose input-only pin."
part F pins: 1 TMS (in) "Dedicated JTAG pin.", 2 TDI (in) "Dedicated JTAG pin.", 73 DONE (io) "Dedicated configuration pin.", 74 SUSPEND (in) "Dedicated pin for the power-saving Suspend mode.", 107 TDO (out) "Dedicated JTAG pin.", 109 TCK (in) "Dedicated JTAG pin.", 144 PROG_B (in) "Dedicated configuration pin."
part G pins: 14 VCCO_3 (power) "Supplies power to the output buffers within the I/O bank.", 22 VCCINT (power) "Dedicated internal core logic power supply pin.", 23 VCCO_3 (power) "Supplies power to the output buffers within the I/O bank.", 36 VCCAUX (power) "Dedicated auxiliary power supply pin.", 40 VCCO_2 (power) "Supplies power to the output buffers within the I/O bank.", 52 VCCINT (power) "Dedicated internal core logic power supply pin.", 61 VCCO_2 (power) "Supplies power to the output buffers within the I/O bank.", 66 VCCAUX (power) "Dedicated auxiliary power supply pin.", 86 VCCO_1 (power) "Supplies power to the output buffers within the I/O bank.", 94 VCCINT (power) "Dedicated internal core logic power supply pin.", 95 VCCO_1 (power) "Supplies power to the output buffers within the I/O bank.", 108 VCCAUX (power) "Dedicated auxiliary power supply pin.", 119 VCCO_0 (power) "Supplies power to the output buffers within the I/O bank.", 122 VCCINT (power) "Dedicated internal core logic power supply pin.", 133 VCCAUX (power) "Dedicated auxiliary power supply pin.", 136 VCCO_0 (power) "Supplies power to the output buffers within the I/O bank."
part H pins: 9 GND (power) "Dedicated ground pin.", 17 GND (power) "Dedicated ground pin.", 26 GND (power) "Dedicated ground pin.", 34 GND (power) "Dedicated ground pin.", 56 GND (power) "Dedicated ground pin.", 65 GND (power) "Dedicated ground pin.", 81 GND (power) "Dedicated ground pin.", 89 GND (power) "Dedicated ground pin.", 100 GND (power) "Dedicated ground pin.", 106 GND (power) "Dedicated ground pin.", 118 GND (power) "Dedicated ground pin.", 128 GND (power) "Dedicated ground pin.", 137 GND (power) "Dedicated ground pin."
part A text: BANK 0
part B text: BANK 1
part C text: BANK 2
part D text: BANK 3

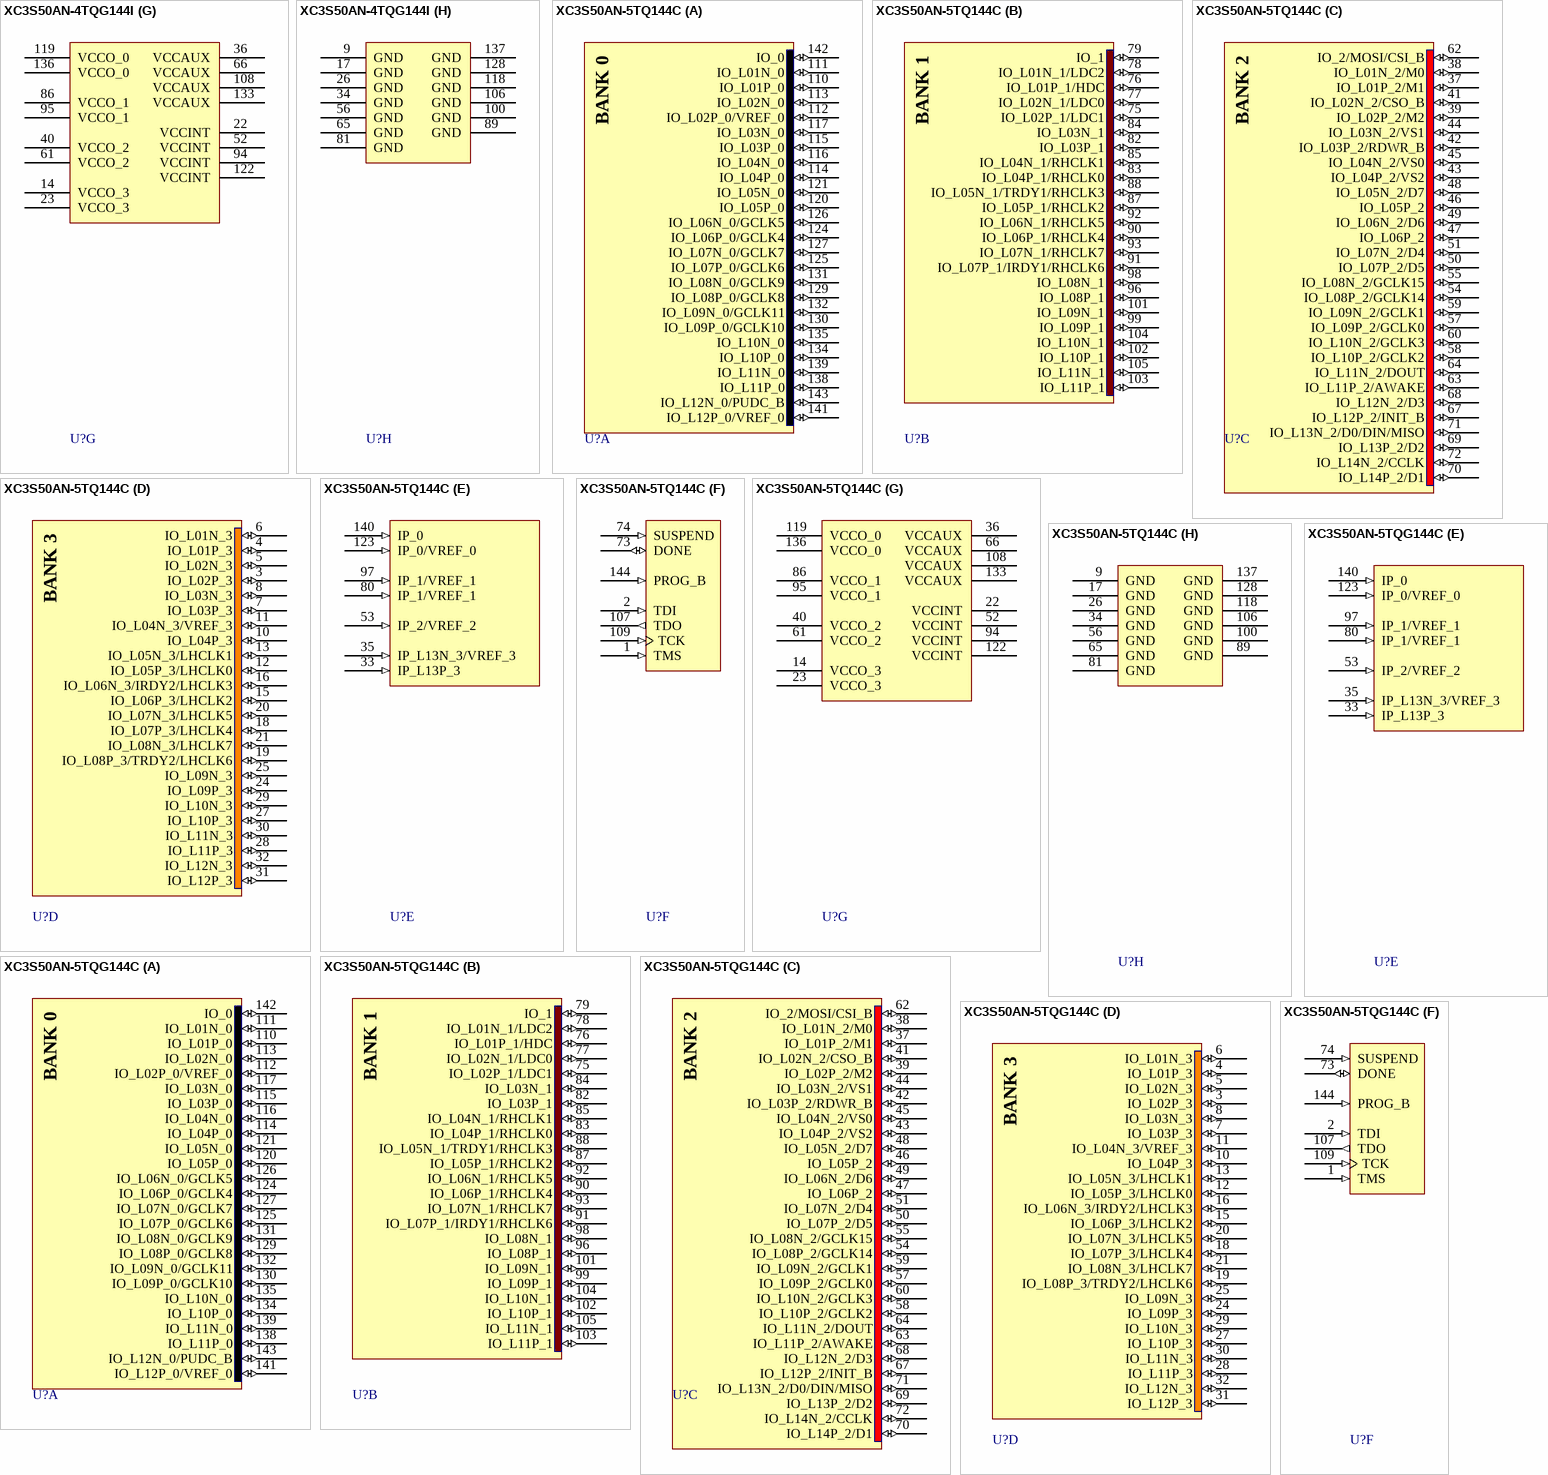
[diagram p2: symbols XC3S50AN-4TQG144I to XC3S50AN-5TQG144C]